# Altium footprint library ZJUNlict_footprint.PcbLib: 113 footprints (part 8 of 8)
Each footprint in its own frame and in the unit in brackets; x right, y up, seen from the top. Pads: shape width x height; smd on the part's side, far side on the other; paste and mask are expansions set on the pad; w line width, h text height; cw(c..) or ccw(c..) is an arc to the next point about the centre after c.
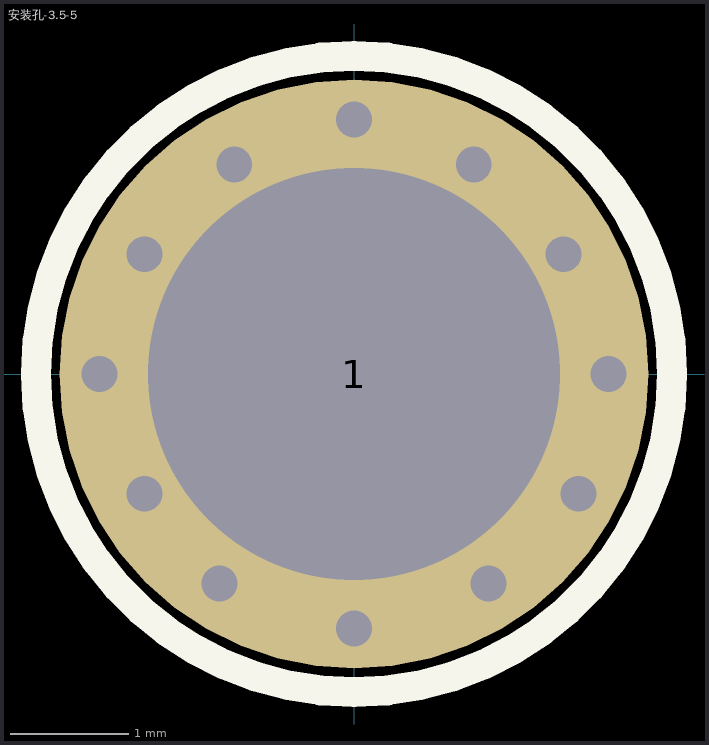
[diagram p7: the footprint, top view; thin cyan lines are the x and y axes]

## 安装孔-3.5-5 [mm]
pads (1):
  round 5 hole 3.5: 1(0,0)
via 1.778,1.016 diameter 0.635 hole 0.305
via 2.159,0 diameter 0.635 hole 0.305
via 0,2.159 diameter 0.635 hole 0.305
via -2.159,0 diameter 0.635 hole 0.305
via 0,-2.159 diameter 0.635 hole 0.305
via -1.778,1.016 diameter 0.635 hole 0.305
via -1.016,1.778 diameter 0.635 hole 0.305
via 1.016,1.778 diameter 0.635 hole 0.305
via 1.905,-1.016 diameter 0.635 hole 0.305
via 1.143,-1.778 diameter 0.635 hole 0.305
via -1.143,-1.778 diameter 0.635 hole 0.305
via -1.778,-1.016 diameter 0.635 hole 0.305
Top Overlay:
  circle w0.254: c0,0 r2.7